# Altium footprint library USB1100-30-A.PcbLib: 1 footprints
Each footprint in its own frame and in the unit in brackets; x right, y up, seen from the top. Pads: shape width x height; smd on the part's side, far side on the other; paste and mask are expansions set on the pad; w line width, h text height; cw(c..) or ccw(c..) is an arc to the next point about the centre after c.
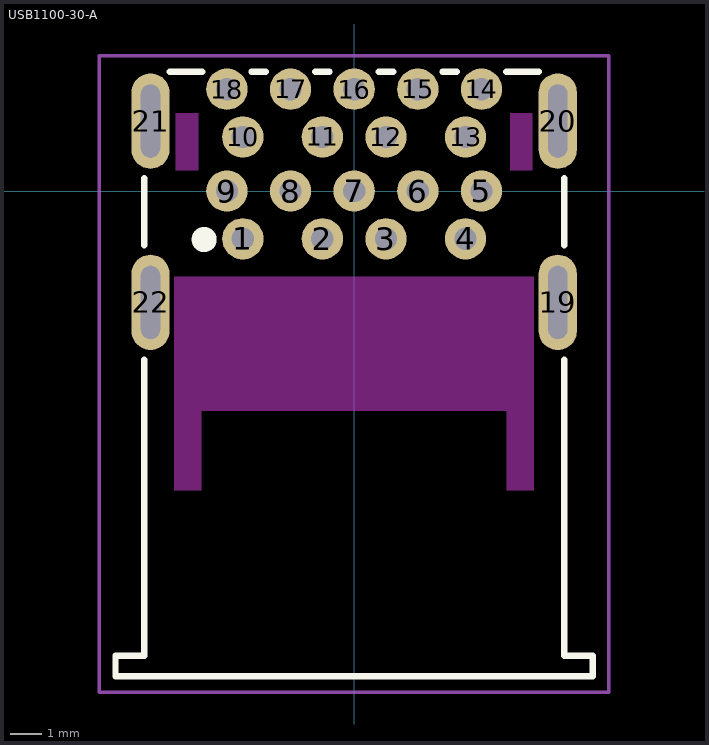
[diagram p0: the footprint, top view; thin cyan lines are the x and y axes]

## USB1100-30-A [mm] "USB 3.0 Dual Receptecal, Type A, Top Mount, Through Hole, Horizontal"
height 16.1
pads (22):
  round 1.3 hole 0.7: 1(-3.5,-1.5) 2(-1,-1.5) 3(1,-1.5) 4(3.5,-1.5) 5(4,0) 6(2,0) 7(0,0) 8(-2,0) 9(-4,0) 10(-3.5,1.7) 11(-1,1.7) 12(1,1.7) 13(3.5,1.7) 14(4,3.2) 15(2,3.2) 16(0,3.2) 17(-2,3.2) 18(-4,3.2)
  oval 1.2x3 hole 0.6 slot 2.3 at 90 deg: 19(6.4,-3.5) 20(6.4,2.2) 21(-6.4,2.2) 22(-6.4,-3.5)
Top Layer keep-out:
  region: -5.6,0.65 -4.9,0.65 -4.9,2.45 -5.6,2.45
  region: 4.9,0.65 5.6,0.65 5.6,2.45 4.9,2.45
  region: -5.65,-9.4 -5.65,-2.7 5.65,-2.7 5.65,-9.4 4.8,-9.4 4.8,-6.9 -4.8,-6.9 -4.8,-9.4
Top Overlay:
  circle w0.4: c-4.715,-1.524 r0.193
  lines w0.2: -6.6,-5.3 -6.6,-14.6 -7.5,-14.6 -7.5,-15.25 7.5,-15.25 7.5,-14.6 6.6,-14.6 6.6,-5.3 ; -6.6,-1.7 -6.6,0.4 ; -5.8,3.75 -4.775,3.75 ; -3.225,3.75 -2.775,3.75 ; -1.225,3.75 -0.775,3.75 ; 0.775,3.75 1.225,3.75 ; 2.775,3.75 3.225,3.75 ; 4.775,3.75 5.8,3.75 ; 6.6,-1.7 6.6,0.4
Top Courtyard:
  lines w0.1: -8.011,-15.75 -8.011,4.25 8,4.25 8,-15.75 -7.5,-15.75 -8.011,-15.75
3D body "usb1100-30-a_revc.step": height 15.34, standoff -2.54, extent -7.51,-15.241 7.51,3.759